# Altium footprint library Connectors.PcbLib: 44 footprints (part 3 of 3)
Each footprint in its own frame and in the unit in brackets; x right, y up, seen from the top. Pads: shape width x height; smd on the part's side, far side on the other; paste and mask are expansions set on the pad; w line width, h text height; cw(c..) or ccw(c..) is an arc to the next point about the centre after c.
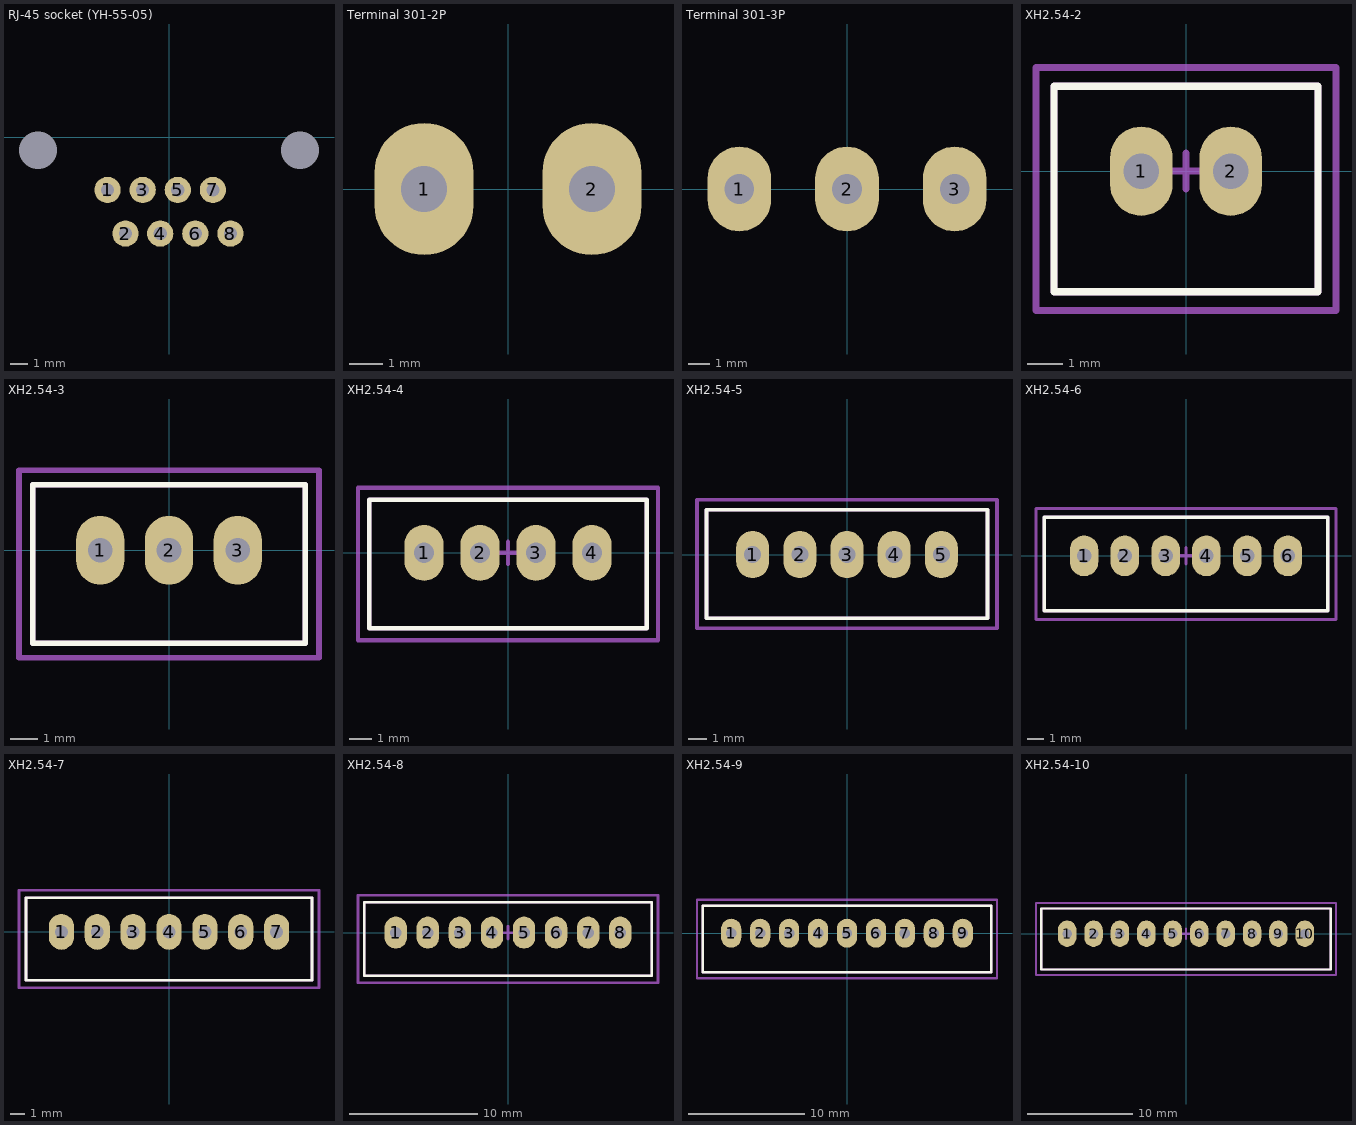
[diagram p2: the footprints below, top view; thin cyan lines are the x and y axes]

## RJ-45 socket (YH-55-05) [mil]
pads (10):
  round 60 hole 30: 1(-140.55,-120.87) 2(-99.61,-220.87) 3(-60.24,-120.87) 4(-20.08,-220.87) 5(20.08,-120.87) 6(60.24,-220.87) 7(100.39,-120.87) 8(140.55,-220.87)
  round 0 hole 86.61: ""(-300,-30) ""(300,-30)
3D body "User Library-RJ45 Connector.step": height 569.4, standoff -164.86, extent -342.52,-311.81 342.52,200

## Terminal 301-2P [mm] "Screw terminal 5.08mm pitch"
pads (2):
  oval 3x4 hole 1.4: 1(-2.54,0) 2(2.54,0)
3D body "User Library-Terminal-Screw-3A-2way.step": height 10, standoff -3, extent -5.6,-3.038 5,4.562

## Terminal 301-3P [mm] "Screw terminal 5.08mm pitch"
pads (3):
  oval 3x4 hole 1.4: 1(-5.08,0) 2(0,0) 3(5.08,0)
3D body "User Library-Terminal-Screw-3A-3way.step": height 10, standoff -3, extent -8.14,-2.911 7.46,4.689

## XH2.54-2 [mm]
height 7
pads (2):
  oval 1.75x2.5 hole 1: 1(-1.25,0) 2(1.25,0)
Top Overlay:
  lines w0.2: -3.7,-3.375 3.7,-3.375 3.7,2.375 -3.7,2.375 -3.7,-3.375
Mechanical 1:
  lines w0.2: -3.7,-3.375 -3.7,2.375 3.7,2.375 3.7,-3.375 -3.7,-3.375
Mechanical 15:
  lines w0.2: -0.5,0 0.5,0 ; 0,-0.5 0,0.5 ; -4.2,-3.9 4.2,-3.9 4.2,2.9 -4.2,2.9 -4.2,-3.9
3D body "JST B2B-XH-A.STEP": height 7, standoff -3.4, extent -3.7,-3.375 3.7,2.375

## XH2.54-3 [mm]
height 7
pads (3):
  oval 1.75x2.5 hole 0.9: 1(-2.5,0) 2(0,0) 3(2.5,0)
Top Overlay:
  lines w0.2: -4.95,-3.375 -4.95,2.375 4.95,2.375 4.95,-3.375 -4.95,-3.375
Mechanical 1:
  lines w0.2: -4.95,-3.375 4.95,-3.375 4.95,2.375 -4.95,2.375 -4.95,-3.375
Mechanical 15:
  lines w0.2: -0.5,0 0.5,0 ; 0,-0.5 0,0.5 ; -5.45,-3.9 -5.45,2.9 5.45,2.9 5.45,-3.9 -5.45,-3.9
3D body "JST B3B-XH-A.STEP": height 7, standoff -3.4, extent -4.95,-3.375 4.95,2.375

## XH2.54-4 [mm]
height 7
pads (4):
  oval 1.75x2.5 hole 0.9: 1(-3.75,0) 2(-1.25,0) 3(1.25,0) 4(3.75,0)
Top Overlay:
  lines w0.2: -6.2,-3.375 -6.2,2.375 6.2,2.375 6.2,-3.375 -6.2,-3.375
Mechanical 1:
  lines w0.2: -6.2,-3.375 6.2,-3.375 6.2,2.375 -6.2,2.375 -6.2,-3.375
Mechanical 15:
  lines w0.2: -0.5,0 0.5,0 ; 0,-0.5 0,0.5 ; -6.7,-3.9 -6.7,2.9 6.7,2.9 6.7,-3.9 -6.7,-3.9
3D body "JST B4B-XH-A.STEP": height 7, standoff -3.4, extent -6.2,-3.375 6.2,2.375

## XH2.54-5 [mm]
height 7
pads (5):
  oval 1.75x2.5 hole 0.9: 1(-5,0) 2(-2.5,0) 3(0,0) 4(2.5,0) 5(5,0)
Top Overlay:
  lines w0.2: -7.45,-3.375 -7.45,2.375 7.45,2.375 7.45,-3.375 -7.45,-3.375
Mechanical 1:
  lines w0.2: -7.45,-3.375 7.45,-3.375 7.45,2.375 -7.45,2.375 -7.45,-3.375
Mechanical 15:
  lines w0.2: -0.5,0 0.5,0 ; 0,-0.5 0,0.5 ; -7.95,-3.9 -7.95,2.9 7.95,2.9 7.95,-3.9 -7.95,-3.9
3D body "JST B5B-XH-A.STEP": height 7, standoff -3.4, extent -7.45,-3.375 7.45,2.375

## XH2.54-6 [mm]
height 7
pads (6):
  oval 1.75x2.5 hole 0.9: 1(-6.25,0) 2(-3.75,0) 3(-1.25,0) 4(1.25,0) 5(3.75,0) 6(6.25,0)
Top Overlay:
  lines w0.2: -8.7,-3.375 8.7,-3.375 8.7,2.375 -8.7,2.375 -8.7,-3.375
Mechanical 1:
  lines w0.2: -8.7,-3.375 -8.7,2.375 8.7,2.375 8.7,-3.375 -8.7,-3.375
Mechanical 15:
  lines w0.2: -0.5,0 0.5,0 ; 0,-0.5 0,0.5 ; -9.2,-3.9 9.2,-3.9 9.2,2.9 -9.2,2.9 -9.2,-3.9
3D body "JST B6B-XH-A.STEP": height 7, standoff -3.4, extent -8.7,-3.375 8.7,2.375

## XH2.54-7 [mm]
height 7
pads (7):
  oval 1.75x2.5 hole 0.9: 1(-7.5,0) 2(-5,0) 3(-2.5,0) 4(0,0) 5(2.5,0) 6(5,0) 7(7.5,0)
Top Overlay:
  lines w0.2: -9.95,-3.375 -9.95,2.375 9.95,2.375 9.95,-3.375 -9.95,-3.375
Mechanical 1:
  lines w0.2: -9.95,-3.375 9.95,-3.375 9.95,2.375 -9.95,2.375 -9.95,-3.375
Mechanical 15:
  lines w0.2: -0.5,0 0.5,0 ; 0,-0.5 0,0.5 ; -10.45,-3.9 -10.45,2.9 10.45,2.9 10.45,-3.9 -10.45,-3.9
3D body "JST B7B-XH-A.STEP": height 7, standoff -3.4, extent -9.95,-3.375 9.95,2.375

## XH2.54-8 [mm]
height 7
pads (8):
  oval 1.75x2.5 hole 0.9: 1(-8.75,0) 2(-6.25,0) 3(-3.75,0) 4(-1.25,0) 5(1.25,0) 6(3.75,0) 7(6.25,0) 8(8.75,0)
Top Overlay:
  lines w0.2: -11.2,-3.375 11.2,-3.375 11.2,2.375 -11.2,2.375 -11.2,-3.375
Mechanical 1:
  lines w0.2: -11.2,-3.375 -11.2,2.375 11.2,2.375 11.2,-3.375 -11.2,-3.375
Mechanical 15:
  lines w0.2: -0.5,0 0.5,0 ; 0,-0.5 0,0.5 ; -11.7,-3.9 11.7,-3.9 11.7,2.9 -11.7,2.9 -11.7,-3.9
3D body "JST B8B-XH-A.STEP": height 7, standoff -3.4, extent -11.2,-3.375 11.2,2.375

## XH2.54-9 [mm]
height 7
pads (9):
  oval 1.75x2.5 hole 0.9: 1(-10,0) 2(-7.5,0) 3(-5,0) 4(-2.5,0) 5(0,0) 6(2.5,0) 7(5,0) 8(7.5,0) 9(10,0)
Top Overlay:
  lines w0.2: -12.45,-3.375 -12.45,2.375 12.45,2.375 12.45,-3.375 -12.45,-3.375
Mechanical 1:
  lines w0.2: -12.45,-3.375 12.45,-3.375 12.45,2.375 -12.45,2.375 -12.45,-3.375
Mechanical 15:
  lines w0.2: -0.5,0 0.5,0 ; 0,-0.5 0,0.5 ; -12.95,-3.9 -12.95,2.9 12.95,2.9 12.95,-3.9 -12.95,-3.9
3D body "JST B9B-XH-A.STEP": height 7, standoff -3.4, extent -12.45,-3.375 12.45,2.375

## XH2.54-10 [mm]
height 7
pads (10):
  oval 1.75x2.5 hole 0.9: 1(-11.25,0) 2(-8.75,0) 3(-6.25,0) 4(-3.75,0) 5(-1.25,0) 6(1.25,0) 7(3.75,0) 8(6.25,0) 9(8.75,0) 10(11.25,0)
Top Overlay:
  lines w0.2: -13.7,-3.375 -13.7,2.375 13.7,2.375 13.7,-3.375 -13.7,-3.375
Mechanical 1:
  lines w0.2: -13.7,-3.375 13.7,-3.375 13.7,2.375 -13.7,2.375 -13.7,-3.375
Mechanical 15:
  lines w0.2: -0.5,0 0.5,0 ; 0,-0.5 0,0.5 ; -14.2,-3.9 -14.2,2.9 14.2,2.9 14.2,-3.9 -14.2,-3.9
3D body "JST B10B-XH-A.STEP": height 7, standoff -3.4, extent -13.7,-3.375 13.7,2.375